# EAGLE library part DS2482S-100 (library 1-Wire_for_Selfbus-Projects)
Single-Channel 1-Wire Master I²C to 1-Wire Bridge Device
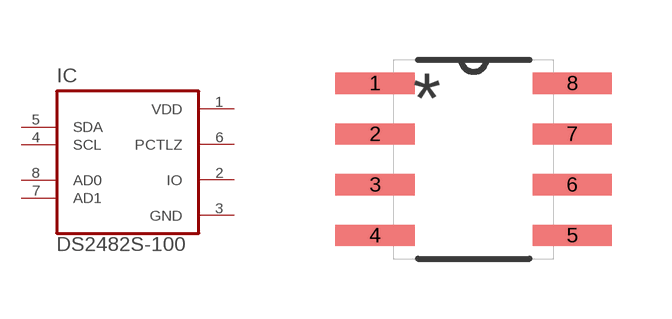
[diagram p1: symbol with the pads of SOIC127P600X175-8N; footprint SOIC127P600X175-8N]

Designator prefix IC

## DS2482S-100  [SOIC127P600X175-8N]
1  VDD  pwr
2  IO
3  GND  pas
4  SCL  in
5  SDA
6  PCTLZ  out
7  AD1  in
8  AD0  in

## Footprint SOIC127P600X175-8N (pad centres in mm)
Small Outline Package
smd 1.981 x 0.533: 1 -2.464,1.905; 2 -2.464,0.635; 3 -2.464,-0.635; 4 -2.464,-1.905; 5 2.464,-1.905; 6 2.464,-0.635; 7 2.464,0.635; 8 2.464,1.905